# EAGLE library part 25LC1024X-X/MF (library 3DPOV)
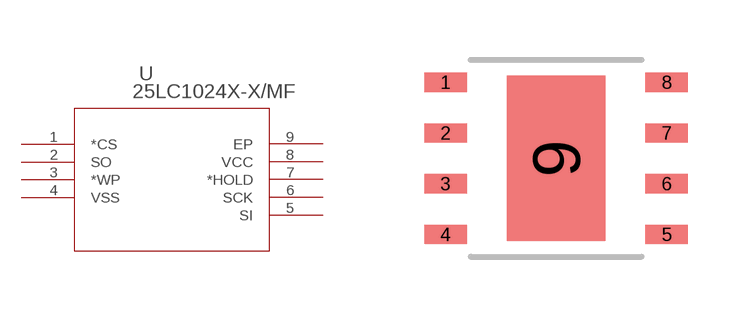
[diagram p4: symbol with the pads of DFN-S8_6X5MC_PS; footprint DFN-S8_6X5MC_PS]

Designator prefix -

## 25LC1024X-X/MF  [DFN-S8_6X5MC_PS]
1  *CS  pas
2  SO  pas
3  *WP  pas
4  VSS  pas
5  SI  pas
6  SCK  pas
7  *HOLD  pas
8  VCC  pas
9  EP  pas

## Footprint DFN-S8_6X5MC_PS (pad centres in mm)
smd 1.067 x 0.483: 1 -2.766,1.905; 2 -2.766,0.635; 3 -2.766,-0.635; 4 -2.766,-1.905; 5 2.766,-1.905; 6 2.766,-0.635; 7 2.766,0.635; 8 2.766,1.905
smd 2.464 x 4.14: 9 0,0